# Altium schematic symbol library RJ-45_BelFuse_L8341GITS7.SchLib: 1 symbol
Pins are listed as number, name and electrical type; pins without a type are passive.

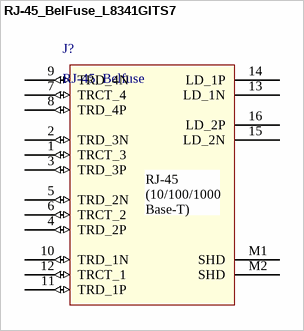
[diagram p0: symbol RJ-45_BelFuse_L8341GITS7]

## RJ-45_BelFuse_L8341GITS7
designator J?, comment RJ-45, Belfuse
RJ-45, Belfuse, Gigabit Magnetic Jack
pins: 1 TRCT_3 (io), 2 TRD_3N (io), 3 TRD_3P (io), 4 TRD_2P (io), 5 TRD_2N (io), 6 TRCT_2 (io), 7 TRCT_4 (io), 8 TRD_4P (io), 9 TRD_4N (io), 10 TRD_1N (io), 11 TRD_1P (io), 12 TRCT_1 (io), 13 LD_1N, 14 LD_1P, 15 LD_2N, 16 LD_2P, M1 SHD (power), M2 SHD (power)
text: RJ-45 / (10/100/1000 Base-T)